# Altium footprint library control.PcbLib: 7 footprints
Each footprint in its own frame and in the unit in brackets; x right, y up, seen from the top. Pads: shape width x height; smd on the part's side, far side on the other; paste and mask are expansions set on the pad; w line width, h text height; cw(c..) or ccw(c..) is an arc to the next point about the centre after c.
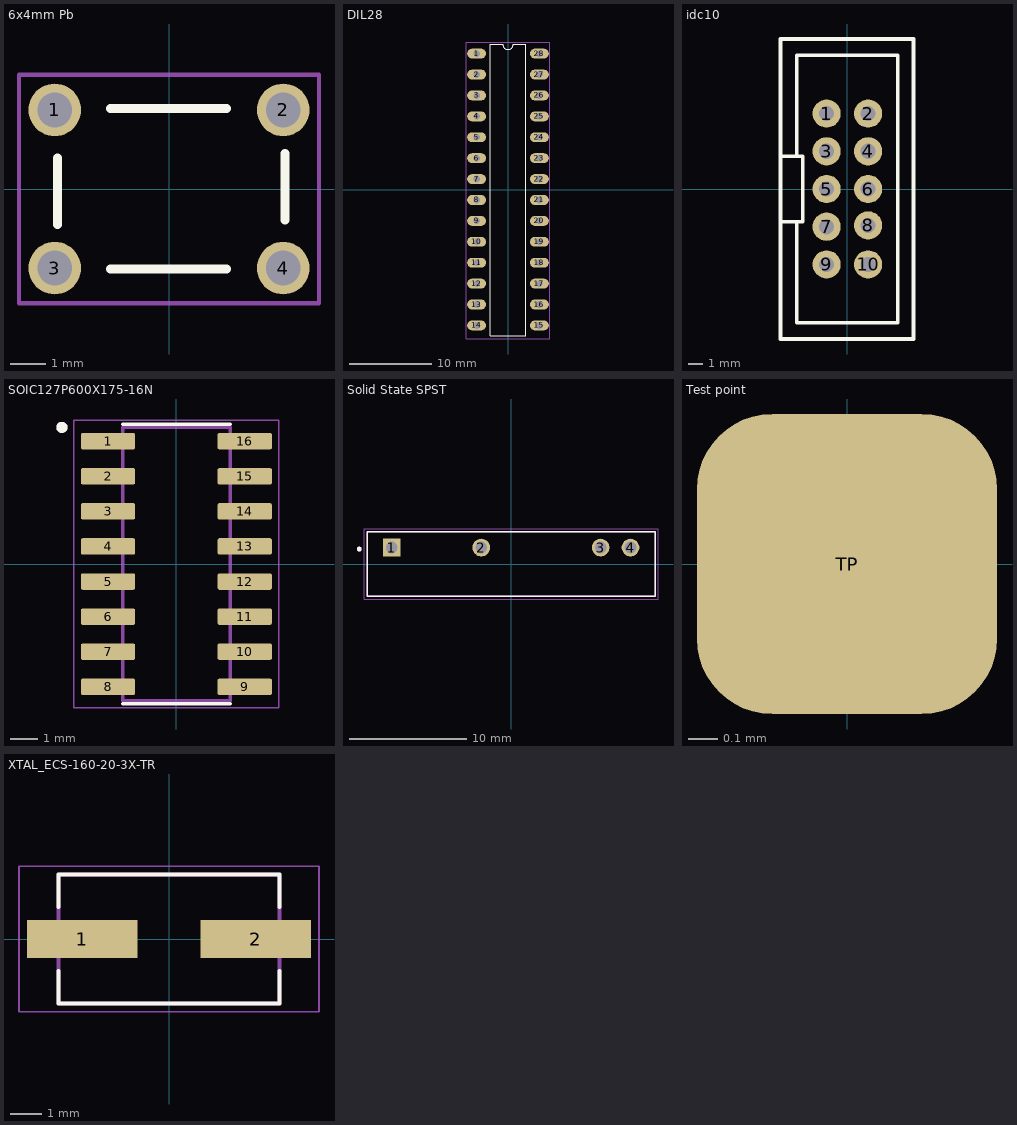
[diagram p0: the footprints below, top view; thin cyan lines are the x and y axes]

## 6x4mm Pb [mm]
pads (4):
  round 1.498 hole 0.99: 1(-3.25,2.25) 2(3.25,2.25) 3(-3.25,-2.25) 4(3.25,-2.25)
Top Overlay:
  lines w0.25: -3.175,-1.016 -3.175,0.889 ; -1.661,-2.274 1.641,-2.274 ; -1.661,2.286 1.641,2.286 ; 3.302,-0.889 3.302,1.016
Mechanical 15:
  lines w0.127: -4.267,-3.251 -4.267,3.251 4.267,3.251 4.267,-3.251 -4.267,-3.251
3D body "Switch Push Button.STEP": height 17.01, standoff -3.51, extent -3.9,-2.995 3.898,2.995

## DIL28 [mm]
pads (28):
  oval 2.3x1.2 hole 0.813: 1(-3.81,16.51) 2(-3.81,13.97) 3(-3.81,11.43) 4(-3.81,8.89) 5(-3.81,6.35) 6(-3.81,3.81) 7(-3.81,1.27) 8(-3.81,-1.27) 9(-3.81,-3.81) 10(-3.81,-6.35) 11(-3.81,-8.89) 12(-3.81,-11.43) 13(-3.81,-13.97) 14(-3.81,-16.51) 15(3.81,-16.51) 16(3.81,-13.97) 17(3.81,-11.43) 18(3.81,-8.89) 19(3.81,-6.35) 20(3.81,-3.81) 21(3.81,-1.27) 22(3.81,1.27) 23(3.81,3.81) 24(3.81,6.35) 25(3.81,8.89) 26(3.81,11.43) 27(3.81,13.97) 28(3.81,16.51)
Top Overlay:
  lines w0.127: -2.159,-17.78 2.159,-17.78 2.159,17.653 0.635,17.653 cw(c0,17.653) -0.635,17.653 -2.159,17.653 -2.159,-17.78
Mechanical 15:
  lines w0.05: -5.08,-18.161 5.08,-18.161 5.08,-9.049 5.08,8.668 5.08,17.907 -5.08,17.907 -5.08,-18.161
3D body "ATMEGA328P-PU.step": height 5.2, standoff -3, extent -3.808,-17.747 4.062,17.653

## idc10 [mm]
pads (10):
  round 1.9 hole 1.016 unplated: 1(-1.397,5.08) 2(1.397,5.08) 3(-1.397,2.54) 4(1.397,2.54) 5(-1.397,0) 6(1.397,0) 7(-1.397,-2.54) 8(1.397,-2.45) 9(-1.397,-5.08) 10(1.397,-5.08)
Top Overlay:
  lines w0.25: -4.5,-10.1 -4.5,10.1 ; -4.5,-2.2 -3,-2.2 -3,2.2 -4.5,2.2 ; -4.45,10.1 4.45,10.1 4.45,-10.1 ; -4.445,-10.1 4.445,-10.1 ; -3.4,-2.2 -3.4,-9 3.4,-9 3.4,9 -3.4,9 -3.4,2.2 ; 4.445,10.1 4.445,0 4.45,0
3D body "SPI.STEP": height 8, standoff -4, extent -4.572,-10.1 4.428,10.1

## SOIC127P600X175-16N [mm]
pads (16):
  rrect25% 1.97x0.6 smd: 1(-2.475,4.445) 2(-2.475,3.175) 3(-2.475,1.905) 4(-2.475,0.635) 5(-2.475,-0.635) 6(-2.475,-1.905) 7(-2.475,-3.175) 8(-2.475,-4.445) 9(2.475,-4.445) 10(2.475,-3.175) 11(2.475,-1.905) 12(2.475,-0.635) 13(2.475,0.635) 14(2.475,1.905) 15(2.475,3.175) 16(2.475,4.445)
Top Overlay:
  circle w0.2: c-4.145,4.945 r0.1
  lines w0.127: -1.95,-5.065 1.95,-5.065 ; -1.95,5.065 1.95,5.065
Mechanical 13:
  circle w0.2: c-4.145,4.945 r0.1
  lines w0.127: -1.95,-4.95 1.95,-4.95 1.95,4.95 -1.95,4.95 -1.95,-4.95
Mechanical 15:
  lines w0.05: -3.71,-5.2 3.71,-5.2 3.71,5.2 -3.71,5.2 -3.71,-5.2
3D body "50-V, 7-ch darlington transistor array, (ULN2003AD).STEP": height 1.75, standoff 0, extent -3,-4.95 3,4.95

## Solid State SPST [mm]
pads (4):
  rect 1.508x1.508 hole 1: 1(-10.16,1.4)
  round 1.508 hole 1: 2(-2.54,1.4) 3(7.62,1.4) 4(10.16,1.4)
Top Overlay:
  circle w0.2: c-12.93,1.27 r0.1
  lines w0.127: -12.25,-2.75 12.25,-2.75 12.25,2.75 -12.25,2.75 -12.25,-2.75
Mechanical 13:
  circle w0.2: c-12.93,1.27 r0.1
  lines w0.127: -12.25,-2.75 12.25,-2.75 12.25,2.75 -12.25,2.75 -12.25,-2.75
Mechanical 15:
  lines w0.05: -12.5,-3 -12.5,3 12.5,3 12.5,-3 -12.5,-3
3D body "Solid State SPST-NO Relay.STEP": height 20.5, standoff -3.9, extent -12.308,-2.623 12.192,2.877

## Test point [mil]
pads (1):
  rrect50% 40x40 smd: TP(0,0)

## XTAL_ECS-160-20-3X-TR [mm]
pads (2):
  rect 3.5x1.2 smd: 1(-2.75,0) 2(2.75,0)
Top Overlay:
  lines w0.127: -3.5,-1.01 -3.5,-2.05 3.5,-2.05 3.5,-1.01 ; -3.5,1.01 -3.5,2.05 3.5,2.05 3.5,1.01
Mechanical 13:
  lines w0.127: -3.5,-2.05 -3.5,2.05 3.5,2.05 3.5,-2.05 -3.5,-2.05
Mechanical 15:
  lines w0.05: -4.75,-2.3 -4.75,-0.85 -4.75,0.85 -4.75,2.3 4.75,2.3 4.75,0.85 4.75,-0.85 4.75,-2.3 -4.75,-2.3
3D body "16MHz ±30ppm Crystal 20pF 50 Ohms.STEP": height 2.3, standoff 0, extent -3.818,-2.068 3.782,2.032